# Altium integrated library Knattebol PCB.IntLib: 28 symbols
Pins are listed as number, name and electrical type; pins without a type are passive.

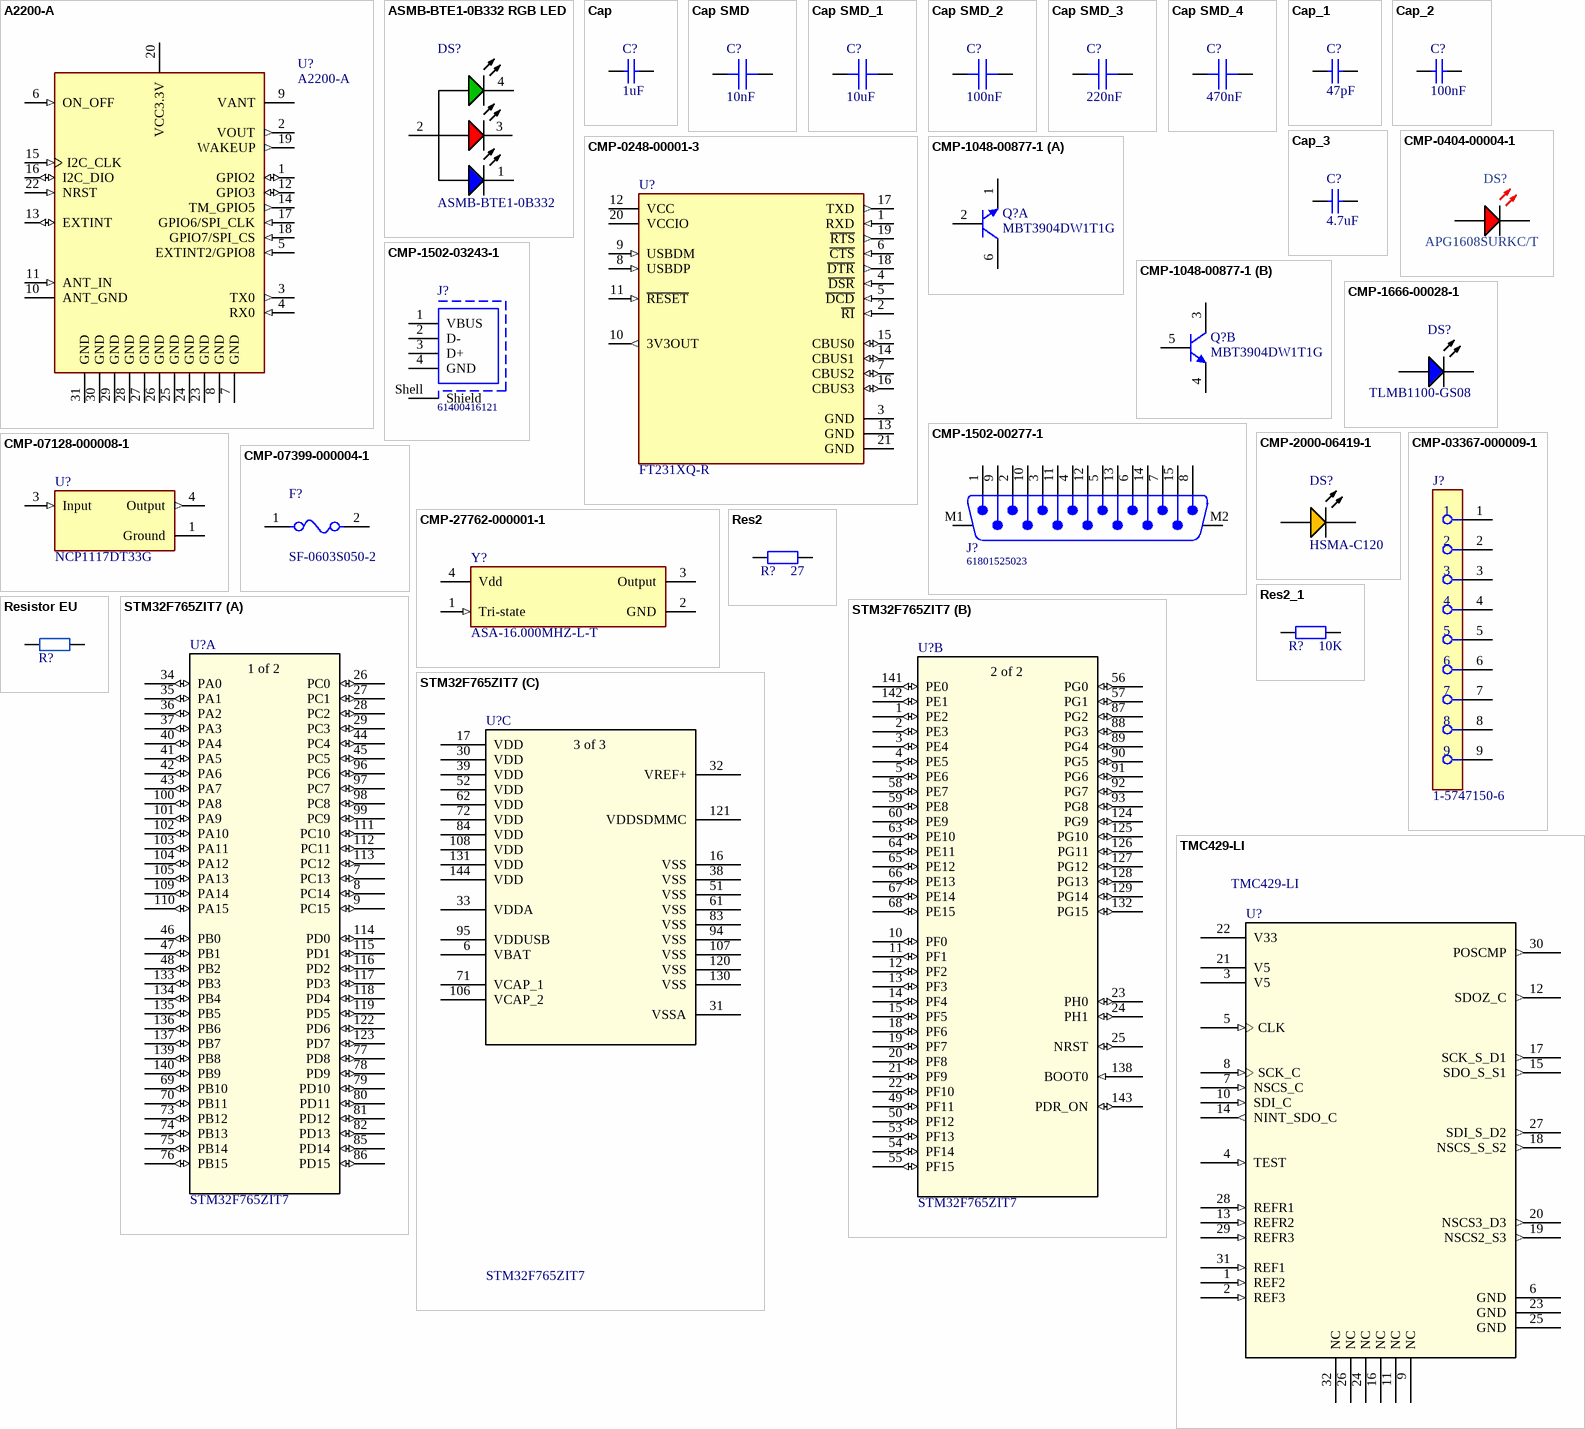
[diagram p0: symbols A2200-A to TMC429-LI]

## A2200-A
designator U?
SiRFstarIVâ„¢ RF Receiver GPS 1.575GHz -163dBm 115.2kbps Module; MF: Maestro Wireless; SnapEDA_Link: https://www.snapeda.com/parts/A2200-A/Maestro%20Wireless%20Solutions/view-part/51723/?ref=snap; Availability: Unavailable; MP: A2200-A; Price: None; Value: *; Package: Module Maestro Wireless
footprint XCVR_A2200-A
pins: 1 GPIO2 (io), 2 VOUT (out), 3 TX0 (out), 4 RX0 (in), 5 EXTINT2/GPIO8 (in), 6 ON_OFF (in), 7 GND (power), 8 GND (power), 9 VANT (power), 10 ANT_GND (power), 11 ANT_IN (in), 12 GPIO3 (io), 13 EXTINT (io), 14 TM_GPIO5 (out), 15 I2C_CLK (in), 16 I2C_DIO (io), 17 GPIO6/SPI_CLK (in), 18 GPIO7/SPI_CS (in), 19 WAKEUP (out), 20 VCC3.3V (power), 22 NRST (in), 23 GND (power), 24 GND (power), 25 GND (power), 26 GND (power), 27 GND (power), 28 GND (power), 29 GND (power), 30 GND (power), 31 GND (power)

## ASMB-BTE1-0B332 RGB LED
designator DS?, comment ASMB-BTE1-0B332
LED RGB DIFFUSED 4PLCC SMD; Manufacturer: Broadcom; Led Orientation: Top View; Colour: Blue, Green, Red; Viewing Angle: 110°; Power Dissipation: 90/90/78mW; Forward Current: 20mA; Max Junction Temp: +110°C; Wavelength: 469/529/622nm; Luminous Intensity: 350/1500/630mcd; Forward Voltage: 3.1/3.1/2.1V; Reverse Voltage: 4V; Peak Emmision Wavelength: 464/521/629nm; Package: 0; Temperature Range High: +100°C; Device Class L1: Optoelectronics; Device Class L2: LEDs; Temperature Range Low: -40°C; Temperature: -40°C to +100°C; Category: Diode; Device Class L3: unset; Manufacturer Part Number: ASMB-BTE1-0B332; Digikey Description: LED RGB DIFFUSED 4PLCC SMD; Lead Free: Yes; ComponentLink2Description: Datasheet; RoHS: TRUE; Automotive: No; Height: 2.1mm; ComponentLink2URL: https://docs.broadcom.com/docs/AV02-4236EN; Octopart: https://octopart.com/asmb-bte1-0b332-broadcom-71127192
footprint FP-ASMB-BTE1-0B332-MFG
pins: 1 Cathode(Blue), 2 Common Anode, 3 Cathode(Red), 4 Cathode(Green)

## Cap
designator C?, comment 1uF
Capacitor; Published: 8-Jun-2000; LatestRevisionDate: 17-Jul-2002; LatestRevisionNote: Re-released for DXP Platform.; PackageReference: RAD-0.3; Publisher: Altium Limited; PackageDescription: Radial Cap, Thru-Hole; 2 Leads; 0.3 in Pin Spacing; Value: 1uF
simulation model CAP (Capacitor)
signal-integrity model Cap
footprint C0603 (1608) (Chip Capacitor, 2-Leads, Body 1,60x0,81mm, IPC Low Density)
pins: 1, 2

## Cap SMD
designator C?  value 10nF  (hidden comment: Cap SMD)
footprint C0603 (1608) (Chip Capacitor, 2-Leads, Body 1,60x0,81mm, IPC Low Density)
pins: 1 (power) "Output", 2 (power) "Output"

## Cap SMD_1
designator C?, comment value 10uF  (hidden comment: Cap SMD)
footprint C0603 (1608) (Chip Capacitor, 2-Leads, Body 1,60x0,81mm, IPC Low Density)
pins: 1 (power) "Output", 2 (power) "Output"

## Cap SMD_2
designator C?, comment value 100nF  (hidden comment: Cap SMD)
footprint C0603 (1608) (Chip Capacitor, 2-Leads, Body 1,60x0,81mm, IPC Low Density)
pins: 1 (power) "Output", 2 (power) "Output"

## Cap SMD_3
designator C?, comment value 220nF  (hidden comment: Cap SMD)
footprint C0603 (1608) (Chip Capacitor, 2-Leads, Body 1,60x0,81mm, IPC Low Density)
pins: 1 (power) "Output", 2 (power) "Output"

## Cap SMD_4
designator C?, comment value 470nF  (hidden comment: Cap SMD)
footprint C0603 (1608) (Chip Capacitor, 2-Leads, Body 1,60x0,81mm, IPC Low Density)
pins: 1 (power) "Output", 2 (power) "Output"

## Cap_1
designator C?, comment 47pF
Capacitor; Published: 8-Jun-2000; LatestRevisionDate: 17-Jul-2002; LatestRevisionNote: Re-released for DXP Platform.; PackageReference: RAD-0.3; Publisher: Altium Limited; PackageDescription: Radial Cap, Thru-Hole; 2 Leads; 0.3 in Pin Spacing; Value: 47pF
simulation model CAP (Capacitor)
signal-integrity model Cap
footprint C0603 (1608) (Chip Capacitor, 2-Leads, Body 1,60x0,81mm, IPC Low Density)
pins: 1, 2

## Cap_2
designator C?, comment 100nF
Capacitor; Published: 8-Jun-2000; LatestRevisionDate: 17-Jul-2002; LatestRevisionNote: Re-released for DXP Platform.; PackageReference: RAD-0.3; Publisher: Altium Limited; PackageDescription: Radial Cap, Thru-Hole; 2 Leads; 0.3 in Pin Spacing; Value: 100nF
simulation model CAP (Capacitor)
signal-integrity model Cap
footprint C0603 (1608) (Chip Capacitor, 2-Leads, Body 1,60x0,81mm, IPC Low Density)
pins: 1, 2

## Cap_3
designator C?, comment 4.7uF
Capacitor; Published: 8-Jun-2000; LatestRevisionDate: 17-Jul-2002; LatestRevisionNote: Re-released for DXP Platform.; PackageReference: RAD-0.3; Publisher: Altium Limited; PackageDescription: Radial Cap, Thru-Hole; 2 Leads; 0.3 in Pin Spacing; Value: 4.7uF
simulation model CAP (Capacitor)
signal-integrity model Cap
footprint C0603 (1608) (Chip Capacitor, 2-Leads, Body 1,60x0,81mm, IPC Low Density)
pins: 1, 2

## CMP-0248-00001-3
designator U?, comment FT231XQ-R
IC USB SERIAL FULL UART 20QFN; Manufacturer: FTDI; Data Rate: 12Mbps; Operating Supply Current: 8mA; Min Supply Voltage: 2.97V; Max Supply Voltage: 5.5V; Number of Channels: 1; Min Operating Temperature: -40°C; Case/Package: QFN; Mount: Surface Mount; Number of Pins: 20; Interface: UART; Lead Free: Lead Free; Package Quantity: 5000; Weight: 0.004339oz; Packaging: Tape and Reel; Max Operating Temperature: 85°C; Manufacturer Part Number: FT231XQ-R
footprint FP-QFN-20-MFG
footprint FP-QFN-20-IPC_C
footprint FP-QFN-20-IPC_B
footprint FP-QFN-20-IPC_A
pins: 1 RXD (in), 2 ~{RI} (in), 3 GND (power), 4 ~{DSR} (in), 5 ~{DCD} (in), 6 ~{CTS} (in), 7 CBUS2 (io), 8 USBDP (in), 9 USBDM (in), 10 3V3OUT (out), 11 ~{RESET} (in), 12 VCC (power), 13 GND (oe), 14 CBUS1 (io), 15 CBUS0 (io), 16 CBUS3 (io), 17 TXD (out), 18 ~{DTR} (out), 19 ~{RTS} (out), 20 VCCIO (power), 21 GND (power)

## CMP-0404-00004-1
designator DS?, comment APG1608SURKC/T
Ultra Thin Hyper Red SMD Chip LED Lamp, 2 to 2.5 V, -40 to 85 degC, Body 1.6 x 0.8 mm, 0.28 mm Thickness, RoHS, Tape and Reel; Manufacturer: Kingbright; Dice: Hyper Red (AlGaInP); IR (Max): 10 uA; Luminous Intensity mcd @ 20 mA (Min.): 55; Lens Type: Water Clear; Viewing Angle: 120; Luminous Intensity mcd @ 20 mA (Typ.): 110; ComponentLink2Description: Datasheet; ComponentLink3URL: http://www.kingbrightusa.com/images/catalog/SPEC/APG1608SURKC-T.pdf; Packing: Tape and Reel; Mounting Technology: Surface Mount; PackageVersion: Rev. V.5A; ComponentLink1Description: Manufacturer URL; ComponentLink2URL: http://www.kingbrightusa.com/images/catalog/SPEC/APG1608SURKC-T.pdf; ComponentLink3Description: Package Specification; PackageDescription: 2-Pin SMT, Body 1.6 x 0.8 mm, 0.28mm Thickness, Red; PackageReference: LED0603-25-RED; DatasheetVersion: Rev. V.5A; Operating Temperature: -40 to 85 degC; PartNumber: APG1608SURKC/T; ComponentLink1URL: http://www.kingbrightusa.com/; Forward Voltage: 2 to 2.5 V; RoHS: TRUE; Manufacturer Part Number: APG1608SURKC/T
footprint KING-LED0603-25-RED_V (LED, SMT, Body 1.6x0.8mm, 0.28mm Thickness, Red)
pins: 1 A, 2 K

## CMP-1048-00877-1
designator Q?, comment MBT3904DW1T1G
Dual General Purpose Transistors, 6-Pin SOT-363, Pb-Free, Tape and Reel; Manufacturer: On Semiconductor; Polarity: Dual NPN; fT Min (MHz): 300; IC Continuous (A): 0.2; DatasheetVersion: Rev. 9; ComponentLink2Description: Datasheet; Mounting Technology: Surface Mount; PackageReference: SOT-363-6-419B-02_W; RoHS: TRUE; ComponentLink1Description: Manufacturer URL; ComponentLink2URL: http://www.onsemi.com/pub_link/Collateral/MBT3904DW1T1-D.PDF; PackageVersion: Rev. W, 01/2006; Packing: Tape and Reel; PartNumber: MBT3904DW1T1G; ComponentLink1URL: http://www.onsemi.com/; ComponentLink3URL: http://www.onsemi.com/pub_link/Collateral/NTJD4001N-D.PDF; ComponentLink3Description: Package Specification; PackageDescription: 6-Pin Small Outline Transistor, Body 2 x 1.25 mm, Pitch 0.65 mm; Manufacturer: ON Semiconductor; Manufacturer Part Number: MBT3904DW1T1G
footprint ONSC-SOT-363-6-419B-02_W_V (SOT23, 6-Leads, Body 2x1.25mm, Pitch 0.65mm)
part A pins: 1 E, 2 B, 6 C
part B pins: 3 C, 4 E, 5 B

## CMP-1502-00277-1
designator J?, comment 61801525023
Male PCB Connector WR-DSUB, Vertical, 15 pins; Manufacturer: Wurth Elektronik; Manufacturer: Wurth Electronics; Working Voltage: 125VAC; Pin Number: 15; Rated Current: 3A; Contact Resistance: 30mOhm; Datasheet URL: https://katalog.we-online.de/em/datasheet/6180xx25023.pdf; Package Reference: 61801525023; Operating Temperature: -40to85degC; Publisher: WurthElektronik; Orientation: Vertical; Gender: Male; Manufacturer URL: http://www.we-online.de; Mounting Technology: THT; Packaging: Tray; Part Number: 61801525023; Manufacturer Part Number: 61801525023
footprint 61801525023 (15 pins, straight)
pins: 1, 2, 3, 4, 5, 6, 7, 8, 9, 10, 11, 12, 13, 14, 15, M1, M2

## CMP-1502-03243-1
designator J?, comment 61400416121
USB 2.0 Type B Receptacle WR-COM, Horizontal, THT, with Pads and Pegs; Manufacturer: Wurth Elektronik; Manufacturer: Wurth Electronics; Contact Resistance: 20mOhm; Rated Current: 1.5A; Working Voltage: 30VAC; Package Reference: 61400416121; Part Number: 61400416121; Packaging: Tray; Mounting Technology: THT; Gender: Receptacle; Datasheet URL: https://katalog.we-online.de/em/datasheet/61400416121.pdf; Publisher: WurthElektronik; Orientation: Horizontal; Connector Type: USB2.0TypeB; Operating Temperature: -40to105degC; Manufacturer URL: http://www.we-online.de; Manufacturer Part Number: 61400416121
footprint 61400416121 (USB 2.0 Type B Horizontal)
pins: 1 VBUS, 2 D-, 3 D+, 4 GND, Shell Shield

## CMP-1666-00028-1
designator DS?, comment TLMB1100-GS08
Blue LED, 10 mA, 3.9 V, -40 to 100 degC, 2-Pin SMD (0603), RoHS, Tape and Reel; Manufacturer: Vishay; Tolerance: 10%; Voltage Rating: 100 V; Capacitance: 10 nF; Type (Capacitors): X7R; Case\Package: Radial; ComponentLink1Description: Manufacturer URL; REACH SVHC: No SVHC; Package Quantity: 500; PackageDescription: 2-Pin Surface Mount Device, Body 1.6 x 0.8 mm; Pins: 2; ComponentLink2URL: http://download.siliconexpert.com/pdfs/2016/8/7/12/43/26/667/vsh_/manual/379263299541529tlmb1100.pdf; RoHSCompliant: true; Lead Pitch: 2.54 mm; Height: 2.54 mm; DatasheetVersion: Rev. 2.7, 03/2016; Length: 5.33 mm; ComponentLink1URL: http://www.vishay.com/; Min Operating Temperature: -55 degC; PackageReference: 0603; Packaging: Bulk; ComponentLink2Description: Datasheet; Max Operating Temperature: 125 degC; Radiation Hardening: No; Width: 3.81 mm; Mount: Through Hole; Manufacturer Part Number: TLMB1100-GS08
footprint VISH-TLMX1100-2_V (SMD, 2-Leads, Body 1.6x0.8mm)
pins: 1 A, 2 K

## CMP-2000-06419-1
designator DS?, comment HSMA-C120
High Performance Chip LED, 1.9 V, -40 to 85 degC, 2-Pin SMD (0603), RoHS, Tape and Reel; Manufacturer: Avago; Manufacturer: Broadcom Avago; DELETED: Compliant; Chip Material: AlGaInP; High Brightness: No; Product Length (mm): 1.6mm; Forward Voltage: 2.4V; Dominant Wave Length: 592nm; Product Height (mm): 1mm; Viewing Angle: 155deg; Luminous Intensity: 90mcd; Number of  Elements: 1; Reverse Voltage: 5V; Forward Current: 25mA; Power Dissipation: 60W; Test Current (It): 20mA; Peak Wavelength: 595nm; Type: Uni-Color; Product Depth (mm): 0.6mm; Shape Type: Rectangular; Emitting Color: Amber; Operating Temp Range: -40Cto85C; Datasheet URL: http://docs.avagotech.com/docs/AV02-0975EN?_ga=1.69010961.1008964631.1477559468; Main Category: ChipLED; Package Description: 2-Pin Surface Mount Device, Body 1.6 x 0.6 mm; Mounting Technology: SurfaceMount; Mounting: SurfaceMount; Manufacturer URL: http://www.avagotech.com/; Package Reference: 0603; Operating Temperature Classification: Industrial; Pin Count: 2; Datasheet Version: 05/2010; Lens Dimensions: 1.2x0.6x0.6mm; Package Type: ChipLed; Rad Hardened: No; Packaging: TapeandReel; Lum Intensity: 90mcd; Manufacturer Part Number: HSMA-C120
footprint AVAG-HSMA-C120-2_V (LED, 2-Leads, Body 1.6x0.6mm)
pins: 1 A, 2 K

## CMP-03367-000009-1
designator J?, comment 1-5747150-6
CONN D-SUB RCPT 9POS VERT SOLDER; Manufacturer: TE Connectivity; Is Female: yes; Current Rating: 6A; Conn Orientation: Vertical; Conn Gender: Female; Shielding: false; Number Of Contacts: 9; Pitch: 2.74mm; ComponentLink2URL: https://www.te.com/usa-en/product-1-5747150-6.html?te_bu=Cor&te_type=other&te_campaign=oct_glo_cor-oct-global-oth-prtnr-fy19-oct-octo-buy-bom_sma-298_2&elqCampaignId=35216; Manufacturer Part Number: 1-5747150-6; Temperature: -55°C to +105°C; Mouser Description: D-Sub Standard Connectors RECP FRNT MTL SHL 9P female screwlocks; Octopart: https://octopart.com/1-5747150-6-te+connectivity-39500344; Category: Conn; Automotive: No; Package: 1-5747150-6; Device Class L3: unset; Contact Material: Gold,Nickel; Lead Free: Yes; Height: 12.54mm; RoHS: TRUE; ComponentLink2Description: Datasheet; Device Class L2: D-Sub Connectors; Device Class L1: Connectors; Digikey Description: CONN D-SUB RCPT 9POS VERT SOLDER; Temperature Range High: +105°C; Temperature Range Low: -55°C
footprint FP-1-5747150-6-MFG
pins: 1, 2, 3, 4, 5, 6, 7, 8, 9

## CMP-07128-000008-1
designator U?, comment NCP1117DT33G
IC REG LINEAR 3.3V 1A DPAK; Manufacturer: ON Semiconductor; Dropout Voltage: 1.2V; Nominal Supply Current: 6mA; Number Of Outputs: 1; Max Supply Voltage: 20V; Max Junction Temp: +150°C; Min Supply Voltage: 2.4V; Accuracy Percentage: 1%; Output Type: Fixed; Standoff Height: 0mm; Package: 369C; Lead Free: Yes; Temperature Range Low: -55°C; Automotive: No; Digikey Description: IC REG LINEAR 3.3V 1A DPAK; ComponentLink2Description: Datasheet; Footprint Url: https://www.onsemi.com/pub/Collateral/369C.PDF; Output Voltage: 3.3V; Manufacturer Part Number: NCP1117DT33G; Device Class L2: Power Management ICs; RoHS: TRUE; Device Class L3: Voltage Regulators - Linear; Mouser Description: LDO Voltage Regulators 3.3V 1A Positive; Output Current: 1A; Ambient Temperature Range Low: 0°C; Height: 2.51mm; Octopart: https://octopart.com/ncp1117dt33g-on+semiconductor-1381653; Temperature Range High: +150°C; Temperature: -55°C to +150°C; Device Class L1: Integrated Circuits (ICs); ComponentLink2URL: https://www.onsemi.jp/PowerSolutions/document/NCP1117-D.PDF; Ambient Temperature Range High: +125°C; Category: IC
footprint FP-369C-MFG
pins: 1 Ground (power), 3 Input (in), 4 Output (out)

## CMP-07399-000004-1
designator F?, comment SF-0603S050-2
FUSE BOARD MNT 500MA 50VDC 0603; Manufacturer: Bourns Inc.; Manufacturer: Bourns; Fuse I2T: 0.009A2Sec; Fuse Current: 0.5A; Fuse Interrupt Ac Current: 50A; Max Fuse Ac Voltage: 35V; Resistance: 232mΩ; Fuse Blow Speed: Slow; Value: 232mΩ; Max Fuse Dc Voltage: 50V; Automotive: No; Category: Fuse; Temperature Range High: +105°C; Device Class L1: Circuit Protection; Height: 0.55mm; RoHS: TRUE; ComponentLink2URL: https://www.bourns.com/docs/product-datasheets/sf0603s.pdf; Ipc Land Pattern Name: CAPC16080X45; Temperature Range Low: -20°C; Mouser Description: Surface Mount Fuses 0.50A Slow Blow SinglFuse; Manufacturer Part Number: SF-0603S050-2; Package: SF-0603S; Device Class L3: unset; Digikey Description: FUSE BOARD MNT 500MA 50VDC 0603; Device Class L2: Fuses; Lead Free: Yes; Temperature: -20°C to +105°C; ComponentLink2Description: Datasheet; Octopart: https://octopart.com/sf-0603s050-2-bourns-10486821; Fuse Interrupt Dc Current: 50A
footprint FP-SF-0603S-MFG
footprint FP-SF-0603S-IPC_C
footprint FP-SF-0603S-IPC_B
footprint FP-SF-0603S-IPC_A
pins: 1, 2

## CMP-27762-000001-1
designator Y?, comment ASA-16.000MHZ-L-T
XTAL OSC XO 16.0000MHZ HCMOS SMD; Manufacturer: Abracon; Max Supply Current: 5mA; Max Supply Voltage: 3.66V; Load Capacitance: 15pF; Stability: 50ppm; Frequency: 16MHz; Min Supply Voltage: 2.97V; Category: Crys; Package: ASA; Temperature Range High: +85°C; Device Class L1: Passive Components; Octopart: https://octopart.com/asa-16.000mhz-l-t-abracon-21707822; Device Class L3: Oscillators; Temperature Range Low: -40°C; ComponentLink2Description: Datasheet; Mouser Description: Standard Clock Oscillators 16.000MHz 3.3V -40C +85C; Height: 0.8mm; Series: ASA; Automotive: No; Device Class L2: Crystals / Oscillators; Manufacturer Part Number: ASA-16.000MHZ-L-T; ComponentLink2URL: https://abracon.com/Oscillators/ASA.pdf; Digikey Description: XTAL OSC XO 16.0000MHZ HCMOS SMD; Footprint Url: https://abracon.com/Support/PackageDrawing/Oscillators/ASA.PDF; Temperature: -40°C to +85°C; RoHS: TRUE; Lead Free: Yes
footprint FP-ASA-MFG
pins: 1 Tri-state (in), 2 GND (power), 3 Output, 4 Vdd (power)

## Res2
designator R?, comment 27
Resistor; Published: 8-Jun-2000; LatestRevisionDate: 17-Jul-2002; LatestRevisionNote: Re-released for DXP Platform.; PackageReference: AXIAL-0.4; Publisher: Altium Limited; PackageDescription: Axial Device, Thru-Hole; 2 Leads; 0.4 in Pin Spacing; Value: 27
simulation model RESISTOR (Resistor)
signal-integrity model Res
footprint R0603 (1608)
pins: 1, 2

## Res2_1
designator R?, comment 10K
Resistor; Published: 8-Jun-2000; LatestRevisionDate: 17-Jul-2002; LatestRevisionNote: Re-released for DXP Platform.; PackageReference: AXIAL-0.4; Publisher: Altium Limited; PackageDescription: Axial Device, Thru-Hole; 2 Leads; 0.4 in Pin Spacing; Value: 10K
simulation model RESISTOR (Resistor)
signal-integrity model Res
footprint R0603 (1608)
pins: 1, 2

## Resistor EU
designator R?, comment Res  (value not drawn)
footprint R0603 (1608)
pins: 1 (power) "Output", 2 (power) "Output"

## STM32F765ZIT7
designator U?
No Description Available; Built_By: EMA_Jessica; Vendor: STMicroelectronics; SourceLibrary: Add_to_database_2020-10-19; Copyright: Copyright (C) 2018 Accelerated Designs. All rights reserved; Manufacturer_Part_Number: STM32F765ZIT7; RefDes: RefDes; Type: DEV
footprint LQFP-144_STM-M
part A pins: 7 PC13 (io), 8 PC14 (io), 9 PC15 (io), 26 PC0 (io), 27 PC1 (io), 28 PC2 (io), 29 PC3 (io), 34 PA0 (io), 35 PA1 (io), 36 PA2 (io), 37 PA3 (io), 40 PA4 (io), 41 PA5 (io), 42 PA6 (io), 43 PA7 (io), 44 PC4 (io), 45 PC5 (io), 46 PB0 (io), 47 PB1 (io), 48 PB2 (io), 69 PB10 (io), 70 PB11 (io), 73 PB12 (io), 74 PB13 (io), 75 PB14 (io), 76 PB15 (io), 77 PD8 (io), 78 PD9 (io), 79 PD10 (io), 80 PD11 (io), 81 PD12 (io), 82 PD13 (io), 85 PD14 (io), 86 PD15 (io), 96 PC6 (io), 97 PC7 (io), 98 PC8 (io), 99 PC9 (io), 100 PA8 (io), 101 PA9 (io), 102 PA10 (io), 103 PA11 (io), 104 PA12 (io), 105 PA13 (io), 109 PA14 (io), 110 PA15 (io), 111 PC10 (io), 112 PC11 (io), 113 PC12 (io), 114 PD0 (io), 115 PD1 (io), 116 PD2 (io), 117 PD3 (io), 118 PD4 (io), 119 PD5 (io), 122 PD6 (io), 123 PD7 (io), 133 PB3 (io), 134 PB4 (io), 135 PB5 (io), 136 PB6 (io), 137 PB7 (io), 139 PB8 (io), 140 PB9 (io)
part B pins: 1 PE2 (io), 2 PE3 (io), 3 PE4 (io), 4 PE5 (io), 5 PE6 (io), 10 PF0 (io), 11 PF1 (io), 12 PF2 (io), 13 PF3 (io), 14 PF4 (io), 15 PF5 (io), 18 PF6 (io), 19 PF7 (io), 20 PF8 (io), 21 PF9 (io), 22 PF10 (io), 23 PH0 (io), 24 PH1 (io), 25 NRST (io), 49 PF11 (io), 50 PF12 (io), 53 PF13 (io), 54 PF14 (io), 55 PF15 (io), 56 PG0 (io), 57 PG1 (io), 58 PE7 (io), 59 PE8 (io), 60 PE9 (io), 63 PE10 (io), 64 PE11 (io), 65 PE12 (io), 66 PE13 (io), 67 PE14 (io), 68 PE15 (io), 87 PG2 (io), 88 PG3 (io), 89 PG4 (io), 90 PG5 (io), 91 PG6 (io), 92 PG7 (io), 93 PG8 (io), 124 PG9 (io), 125 PG10 (io), 126 PG11 (io), 127 PG12 (io), 128 PG13 (io), 129 PG14 (io), 132 PG15 (io), 138 BOOT0 (in), 141 PE0 (io), 142 PE1 (io), 143 PDR_ON (io)
part C pins: 6 VBAT (power), 16 VSS (power), 17 VDD (power), 30 VDD (power), 31 VSSA (power), 32 VREF+ (power), 33 VDDA (power), 38 VSS (power), 39 VDD (power), 51 VSS (power), 52 VDD (power), 61 VSS (power), 62 VDD (power), 71 VCAP_1 (power), 72 VDD (power), 83 VSS (power), 84 VDD (power), 94 VSS (power), 95 VDDUSB (power), 106 VCAP_2 (power), 107 VSS (power), 108 VDD (power), 120 VSS (power), 121 VDDSDMMC (power), 130 VSS (power), 131 VDD (power), 144 VDD (power)
part A text: 1 of 2
part B text: 2 of 2
part C text: 3 of 3

## TMC429-LI
designator U?
No Description Available; Built_By: EMA_Jessica; Vendor: TRINAMIC; SourceLibrary: Trinamic_2018-10-17; Copyright: Copyright (C) 2016 Accelerated Designs. All rights reserved; Manufacturer_Part_Number: TMC429-LI; RefDes: RefDes; Type: DEV
footprint QFN32_5X5_TRI-M
pins: 1 REF2 (in), 2 REF3 (in), 3 V5 (power), 4 TEST (in), 5 CLK (in), 6 GND (power), 7 NSCS_C (in), 8 SCK_C (in), 9 NC, 10 SDI_C (in), 11 NC, 12 SDOZ_C (out), 13 REFR2 (in), 14 NINT_SDO_C (out), 15 SDO_S_S1 (out), 16 NC, 17 SCK_S_D1 (out), 18 NSCS_S_S2 (out), 19 NSCS2_S3 (out), 20 NSCS3_D3 (out), 21 V5 (power), 22 V33 (power), 23 GND (power), 24 NC, 25 GND (power), 26 NC, 27 SDI_S_D2 (out), 28 REFR1 (in), 29 REFR3 (in), 30 POSCMP (out), 31 REF1 (in), 32 NC

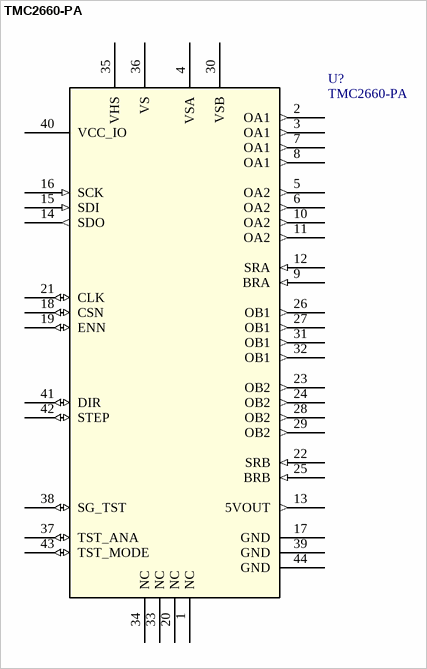
[diagram p1: symbol TMC2660-PA]

## TMC2660-PA
designator U?
No Description Available; Built_By: EMA_Jessica; Vendor: TRINAMIC; SourceLibrary: Trinamic_2018-10-17; Copyright: Copyright (C) 2016 Accelerated Designs. All rights reserved; Manufacturer_Part_Number: TMC2660-PA; RefDes: RefDes; Type: DEV
footprint LQFP44_12X12_TRI
footprint LQFP44_12X12_TRI-M
pins: 1 NC, 2 OA1 (out), 3 OA1 (out), 4 VSA (power), 5 OA2 (out), 6 OA2 (out), 7 OA1 (out), 8 OA1 (out), 9 BRA (in), 10 OA2 (out), 11 OA2 (out), 12 SRA (in), 13 5VOUT (out), 14 SDO (out), 15 SDI (in), 16 SCK (in), 17 GND (power), 18 CSN (io), 19 ENN (io), 20 NC, 21 CLK (io), 22 SRB (in), 23 OB2 (out), 24 OB2 (out), 25 BRB (in), 26 OB1 (out), 27 OB1 (out), 28 OB2 (out), 29 OB2 (out), 30 VSB (power), 31 OB1 (out), 32 OB1 (out), 33 NC, 34 NC, 35 VHS (power), 36 VS (power), 37 TST_ANA (io), 38 SG_TST (io), 39 GND (power), 40 VCC_IO (power), 41 DIR (io), 42 STEP (io), 43 TST_MODE (io), 44 GND (power)